# EAGLE library part CS5533/34 (library domonetic)
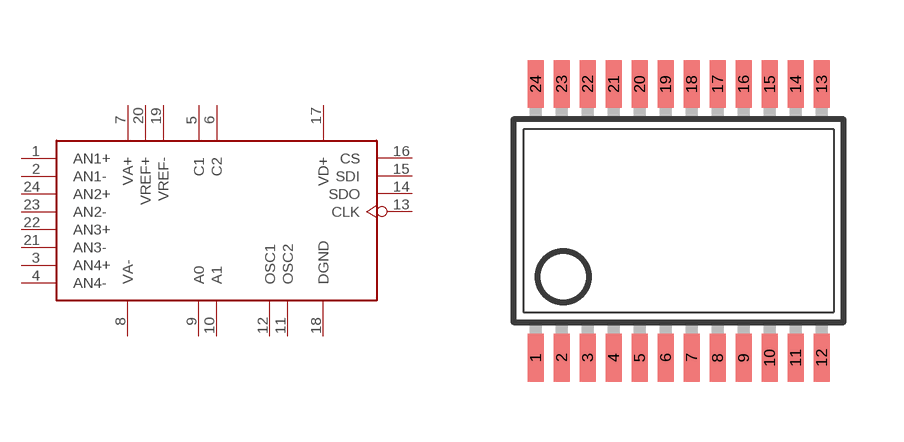
[diagram p5: symbol with the pads of SSOP24; footprint SSOP24]

Designator prefix -

## CS5533/34  [SSOP24]
1  AN1+  in
2  AN1-  in
3  AN4+  in
4  AN4-  in
5  C1  oc
6  C2  oc
7  VA+  pwr
8  VA-  pwr
9  A0  oc
10  A1  oc
11  OSC2  oc
12  OSC1  oc
13  CLK  in
14  SDO  out
15  SDI  in
16  CS  oc
17  VD+  pwr
18  DGND  oc
19  VREF-  pwr
20  VREF+  pwr
21  AN3-  in
22  AN3+  in
23  AN2-  in
24  AN2+  in

## Footprint SSOP24 (pad centres in mm)
Small Shrink Outline Package SOT340-1 / JEDEC MO-150AG
smd 0.4 x 1.2: 1 -3.575,-3.42; 2 -2.925,-3.42; 3 -2.275,-3.42; 4 -1.625,-3.42; 5 -0.975,-3.42; 6 -0.325,-3.42; 7 0.325,-3.42; 8 0.975,-3.42; 9 1.625,-3.42; 10 2.275,-3.42; 11 2.925,-3.42; 12 3.575,-3.42; 13 3.575,3.42; 14 2.925,3.42; 15 2.275,3.42; 16 1.625,3.42; 17 0.975,3.42; 18 0.325,3.42; 19 -0.325,3.42; 20 -0.975,3.42; 21 -1.625,3.42; 22 -2.275,3.42; 23 -2.925,3.42; 24 -3.575,3.42